# EAGLE library part XBEE_HEADERS (library AustinBlackstoneEngineeringPublic)
XBee S1 / XBee Pro
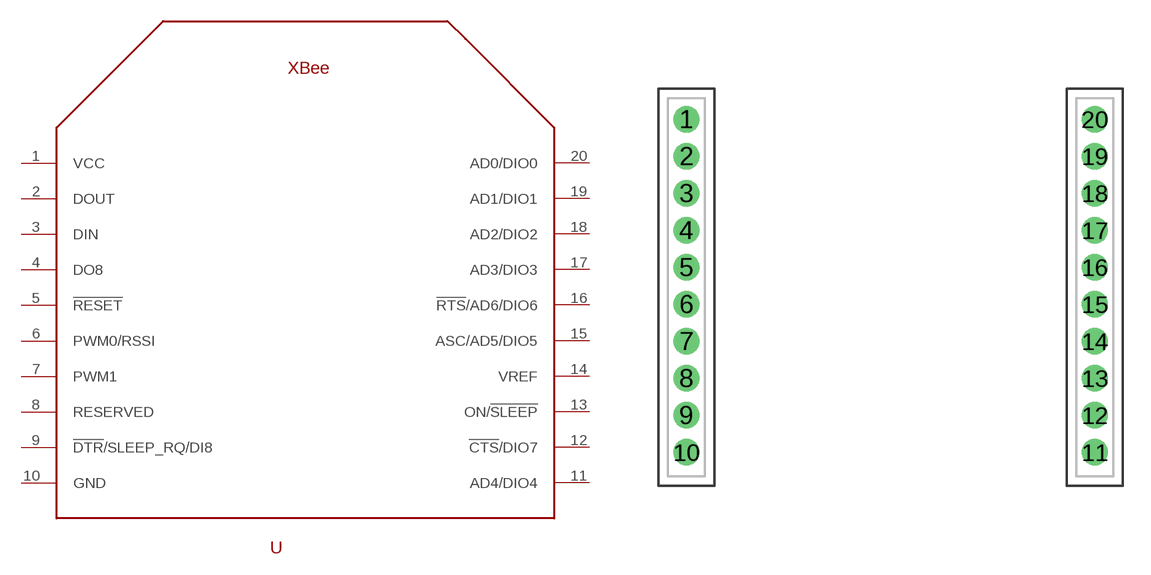
[diagram p3: symbol with the pads of XBEE_HEADERS; footprint XBEE_HEADERS]

Designator prefix -

## XBEE_HEADERS  [XBEE_HEADERS]
1  VCC
2  DOUT
3  DIN
4  DO8
5  !RESET
6  PWM0/RSSI
7  PWM1
8  RESERVED
9  !DTR!/SLEEP_RQ/DI8
10  GND
11  AD4/DIO4
12  !CTS!/DIO7
13  ON/!SLEEP!
14  VREF
15  ASC/AD5/DIO5
16  !RTS!/AD6/DIO6
17  AD3/DIO3
18  AD2/DIO2
19  AD1/DIO1
20  AD0/DIO0

## Footprint XBEE_HEADERS (pad centres in mm)
XBee Headers. 2x10 2mm Headers 22mm Apart Samtec part number SQT-110-03-F-S
drill 0.914 pad 1.372: 1 1.56,19.8; 2 1.56,17.8; 3 1.56,15.8; 4 1.56,13.8; 5 1.56,11.8; 6 1.56,9.8; 7 1.56,7.8; 8 1.56,5.8; 9 1.56,3.8; 10 1.56,1.8; 11 23.63,1.8; 12 23.63,3.8; 13 23.63,5.8; 14 23.63,7.8; 15 23.63,9.8; 16 23.63,11.8; 17 23.63,13.8; 18 23.63,15.8; 19 23.63,17.8; 20 23.63,19.8